# EAGLE library part BL-M23B88RGB-11 (library pavlo)
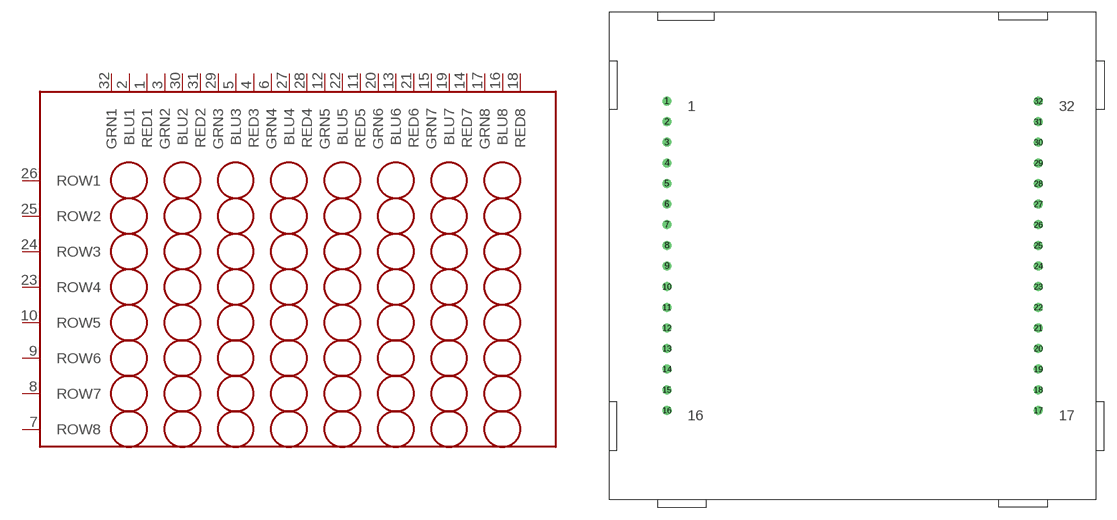
[diagram p13: symbol with the pads of 8X8RGBMATRIX; footprint 8X8RGBMATRIX]

Designator prefix -

## BL-M23B88RGB-11  [8X8RGBMATRIX]
1  RED1
2  BLU1
3  GRN2
4  RED3
5  BLU3
6  GRN4
7  ROW8
8  ROW7
9  ROW6
10  ROW5
11  RED5
12  GRN5
13  BLU6
14  RED7
15  GRN7
16  BLU8
17  GRN8
18  RED8
19  BLU7
20  GRN6
21  RED6
22  BLU5
23  ROW4
24  ROW3
25  ROW2
26  ROW1
27  BLU4
28  RED4
29  GRN3
30  BLU2
31  RED2
32  GRN1

## Footprint 8X8RGBMATRIX (pad centres in mm)
drill 0.6: 1 -22.86,19.05; 2 -22.86,16.51; 3 -22.86,13.97; 4 -22.86,11.43; 5 -22.86,8.89; 6 -22.86,6.35; 7 -22.86,3.81; 8 -22.86,1.27; 9 -22.86,-1.27; 10 -22.86,-3.81; 11 -22.86,-6.35; 12 -22.86,-8.89; 13 -22.86,-11.43; 14 -22.86,-13.97; 15 -22.86,-16.51; 16 -22.86,-19.05; 17 22.86,-19.05; 18 22.86,-16.51; 19 22.86,-13.97; 20 22.86,-11.43; 21 22.86,-8.89; 22 22.86,-6.35; 23 22.86,-3.81; 24 22.86,-1.27; 25 22.86,1.27; 26 22.86,3.81; 27 22.86,6.35; 28 22.86,8.89; 29 22.86,11.43; 30 22.86,13.97; 31 22.86,16.51; 32 22.86,19.05